# Altium schematic symbol library LX-1-Power.SchLib: 6 symbols
Pins are listed as number, name and electrical type; pins without a type are passive.

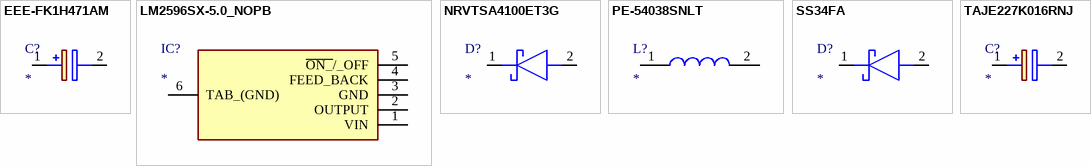
[diagram p0: symbols EEE-FK1H471AM to TAJE227K016RNJ]

## EEE-FK1H471AM
designator C?
Capacitor Polarised; Manufacturer_Name: Panasonic; Manufacturer_Part_Number: EEE-FK1H471AM; Description: Aluminum Electrolytic Capacitors - SMD 470UF 50V FK SMD; Allied_Number: 70258116; Datasheet Link: https://industrial.panasonic.com/cdbs/www-data/pdf/RDE0000/ABA0000C1178.pdf; Height: 17mm; Mouser Part Number: 667-EEE-FK1H471AM; Mouser Price/Stock: https://www.mouser.com/Search/Refine.aspx?Keyword=667-EEE-FK1H471AM; Allied Price/Stock: https://www.alliedelec.com/panasonic-eee-fk1h471am/70258116/
footprint CAPAE1700X1700N
pins: 1 +, 2 -

## LM2596SX-5.0_NOPB
designator IC?
Integrated Circuit; Manufacturer_Name: Texas Instruments; Manufacturer_Part_Number: LM2596SX-5.0/NOPB; Description: SIMPLE SWITCHER&#174; 4.5V to 40V; Datasheet Link: http://www.ti.com/lit/gpn/lm2596; Mouser Part Number: 926-LM2596SX-5.0NOPB; Mouser Price/Stock: https://www.mouser.com/Search/Refine.aspx?Keyword=926-LM2596SX-5.0NOPB
footprint KTT0005B
pins: 1 VIN, 2 OUTPUT, 3 GND, 4 FEED_BACK, 5 ~{ON_}/_OFF, 6 TAB_(GND)

## NRVTSA4100ET3G
designator D?
Schottky Diode; Manufacturer_Name: ON Semiconductor; Manufacturer_Part_Number: NRVTSA4100ET3G; Description: Trench Schottky Rectifier; Datasheet Link: http://www.onsemi.com/pub/Collateral/NRVTSA4100E-D.PDF; Height: 2.2mm; Mouser Part Number: 863-NRVTSA4100ET3G; Mouser Price/Stock: https://www.mouser.com/Search/Refine.aspx?Keyword=863-NRVTSA4100ET3G; RS Part Number: 1413561P; RS Price/Stock: http://uk.rs-online.com/web/p/products/1413561P
footprint DIOM5226X220N
pins: 1 K, 2 A

## PE-54038SNLT
designator L?
Inductor; Manufacturer_Name: Pulse; Manufacturer_Part_Number: PE-54038SNLT; Description: Pulse Shielded Wire-wound SMD Inductor 77 uH +/-20% 2.7A Idc; Datasheet Link: https://productfinder.pulseeng.com/products/datasheets/SPM2007_47.pdf; Mouser Part Number: 673-PE-54038SNLT; Mouser Price/Stock: https://www.mouser.com/Search/Refine.aspx?Keyword=673-PE-54038SNLT; RS Part Number: 7428262; RS Price/Stock: https://uk.rs-online.com/web/p/products/7428262
footprint HCI-68
pins: 1, 2

## SS34FA
designator D?
Schottky Diode; Manufacturer_Name: ON Semiconductor; Manufacturer_Part_Number: SS34FA; Description: ON SEMICONDUCTOR - SS34FA - SCHOTTKY RECT; Datasheet Link: http://www.onsemi.com/pub/Collateral/SS36FA-D.pdf; Height: 1.43mm; Mouser Part Number: 512-SS34FA; Mouser Price/Stock: https://www.mouser.com/Search/Refine.aspx?Keyword=512-SS34FA; RS Part Number: 1841417; RS Price/Stock: http://uk.rs-online.com/web/p/products/1841417
footprint SODFL3618X143N
pins: 1 K, 2 A

## TAJE227K016RNJ
designator C?
Capacitor Polarised; Manufacturer_Name: AVX; Manufacturer_Part_Number: TAJE227K016RNJ; Description: TAJ SMT tant capacitor,Case E,16V,220uF AVX 220uF SMD Solid MnO2 Tantalum Electrolytic Capacitor; Allied_Number: 70475119; Datasheet Link: http://datasheets.avx.com/TAJ.pdf; Height: 4.3mm; Mouser Part Number: 581-TAJE227K016R; Mouser Price/Stock: https://www.mouser.com/Search/Refine.aspx?Keyword=581-TAJE227K016R; RS Part Number: 1355452P; RS Price/Stock: http://uk.rs-online.com/web/p/products/1355452P; Allied Price/Stock: https://www.alliedelec.com/avx-taje227k016rnj/70475119/
footprint CAPPM7344X430N
pins: 1 +, 2 -